# EAGLE library part JUNO-VCF-V1.2 (library XM8)
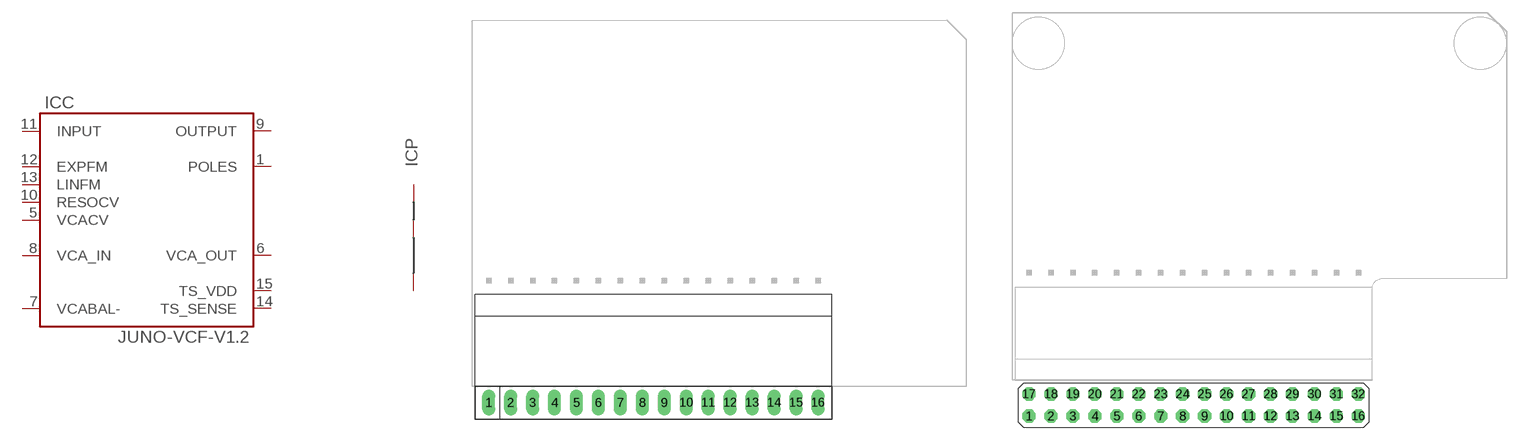
[diagram p31: symbol with the pads of XM8-JUNO-VCF-V1.2H-BOTTOM; footprints XM8-JUNO-VCF-V1.2H-BOTTOM, XM8-JUNO-VCF-V1.2H-BOTTOM-DUAL]

Designator prefix IC; gates C=XM8-JUNO-VCF-V1.2 P=XM8-PWR

## JUNO-VCF-V1.2BS  [XM8-JUNO-VCF-V1.2H-BOTTOM]
1  C:POLES
2  P:-V  pwr
3  P:AGND  pwr
4  P:+V  pwr
5  C:VCACV
6  C:VCA_OUT
7  C:VCABAL-
8  C:VCA_IN
9  C:OUTPUT
10  C:RESOCV
11  C:INPUT
12  C:EXPFM
13  C:LINFM
14  C:TS_SENSE
15  C:TS_VDD

## JUNO-VCF-V1.2BD  [XM8-JUNO-VCF-V1.2H-BOTTOM-DUAL]
Pads as for XM8-JUNO-VCF-V1.2H-BOTTOM

## JUNO-VCF-V1.2T  [XM8-JUNO-VCF-V1.2H-TOP]
Pads as for XM8-JUNO-VCF-V1.2H-BOTTOM

## Footprint XM8-JUNO-VCF-V1.2H-BOTTOM (pad centres in mm)
Xonik Juno filter, mounted upside down. Motherboard uses a C2894959 female header, card uses a C2894959
drill 1.016 long: 1 -20.32,0; 2 -17.78,0; 3 -15.24,0; 4 -12.7,0; 5 -10.16,0; 6 -7.62,0; 7 -5.08,0; 8 -2.54,0; 9 0,0; 10 2.54,0; 11 5.08,0; 12 7.62,0; 13 10.16,0; 14 12.7,0; 15 15.24,0; 16 17.78,0

## Footprint XM8-JUNO-VCF-V1.2H-BOTTOM-DUAL (pad centres in mm)
Xonik Juno filter, mounted upside down. Card uses a C2894959 female header, motherboard uses a dual row C18198031 with the card connected to the top row and nothing connected to the bottom (gives better space between card and motherboard) NB: Wrong number, reduced to 16p/32p
drill 1.016 octagon: 1 -19.05,-1.27; 2 -16.51,-1.27; 3 -13.97,-1.27; 4 -11.43,-1.27; 5 -8.89,-1.27; 6 -6.35,-1.27; 7 -3.81,-1.27; 8 -1.27,-1.27; 9 1.27,-1.27; 10 3.81,-1.27; 11 6.35,-1.27; 12 8.89,-1.27; 13 11.43,-1.27; 14 13.97,-1.27; 15 16.51,-1.27; 16 19.05,-1.27; 17 -19.05,1.27; 18 -16.51,1.27; 19 -13.97,1.27; 20 -11.43,1.27; 21 -8.89,1.27; 22 -6.35,1.27; 23 -3.81,1.27; 24 -1.27,1.27; 25 1.27,1.27; 26 3.81,1.27; 27 6.35,1.27; 28 8.89,1.27; 29 11.43,1.27; 30 13.97,1.27; 31 16.51,1.27; 32 19.05,1.27

## Footprint XM8-JUNO-VCF-V1.2H-TOP (pad centres in mm)
Xonik Juno filter, top mount, card is mounted upside down.
drill 1.016 long: 1 -20.32,0; 2 -17.78,0; 3 -15.24,0; 4 -12.7,0; 5 -10.16,0; 6 -7.62,0; 7 -5.08,0; 8 -2.54,0; 9 0,0; 10 2.54,0; 11 5.08,0; 12 7.62,0; 13 10.16,0; 14 12.7,0; 15 15.24,0; 16 17.78,0